# EAGLE library part UMH3N (library rfglow-esp32)
UMH3NTN
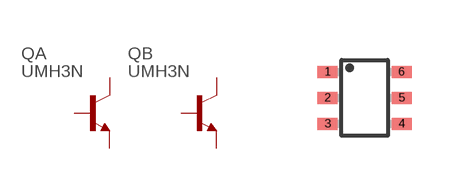
[diagram p6: symbol with the pads of UMT6; footprint UMT6]

Designator prefix Q; gates A=NPN-1 B=NPN-1

## UMH3N (MPN: UMH3NTN; URL: https://lcsc.com/product-detail/Digital-Transistors_ROHM_UMH3NTN_UMH3NTN_C123008.html)  [UMT6]
1  A:E  pas
2  A:B  pas
3  B:C  pas
4  B:E  pas
5  B:B  pas
6  A:C  pas

## Footprint UMT6 (pad centres in mm)
UMT6 Package EIAJ: SC-88 Source: http://www.rohm.com/products/databook/tr/pdf/umx1n.pdf
smd 0.5 x 0.3: 1 -0.925,0.65; 2 -0.925,0; 3 -0.925,-0.65; 4 0.925,-0.65; 5 0.925,0; 6 0.925,0.65